# Altium footprint library Miscellaneous LED Segment Displays.PcbLib: 17 footprints (part 2 of 2)
Each footprint in its own frame and in the unit in brackets; x right, y up, seen from the top. Pads: shape width x height; smd on the part's side, far side on the other; paste and mask are expansions set on the pad; w line width, h text height; cw(c..) or ccw(c..) is an arc to the next point about the centre after c.
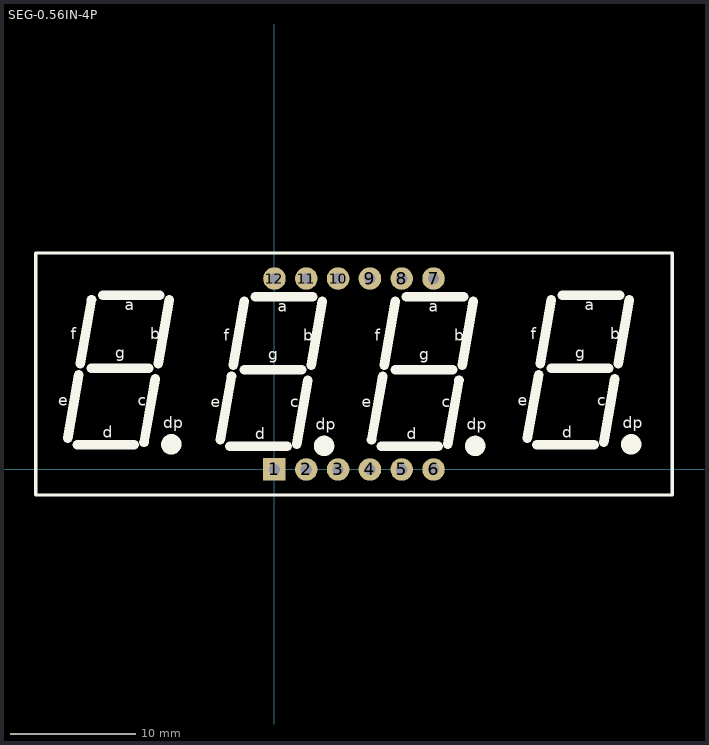
[diagram p1: the footprint, top view; thin cyan lines are the x and y axes]

## SEG-0.56IN-4P [mm]
pads (12):
  rect 1.8x1.8 hole 0.9: 1(0,0)
  round 1.8 hole 0.9: 2(2.54,0) 3(5.08,0) 4(7.62,0) 5(10.16,0) 6(12.7,0) 7(12.7,15.24) 8(10.16,15.24) 9(7.62,15.24) 10(5.08,15.24) 11(2.54,15.24) 12(0,15.24)
Top Overlay:
  circle w1.016: c16.027,1.88 r0.305
  circle w1.016: c3.962,1.88 r0.305
  circle w1.016: c-8.23,2.007 r0.305
  circle w1.016: c28.473,2.007 r0.305
  lines w0.254: -19.05,-2.032 31.75,-2.032 31.75,17.272 -19.05,17.272 -19.05,-2.032
  lines w0.762: -16.51,2.489 -15.621,7.569 ; -15.748,1.981 -11.176,1.981 ; -15.494,8.458 -14.605,13.538 ; -14.605,8.077 -10.033,8.077 ; -13.716,13.919 -9.144,13.919 ; -10.414,2.159 -9.525,7.239 ; -9.271,8.458 -8.382,13.538 ; -4.318,2.362 -3.429,7.442 ; -3.556,1.854 1.016,1.854 ; -3.302,8.331 -2.413,13.411 ; -2.413,7.95 2.159,7.95 ; -1.524,13.792 3.048,13.792 ; 1.778,2.032 2.667,7.112 ; 2.921,8.331 3.81,13.411 ; 7.747,2.362 8.636,7.442 ; 8.509,1.854 13.081,1.854 ; 8.763,8.331 9.652,13.411 ; 9.652,7.95 14.224,7.95 ; 10.541,13.792 15.113,13.792 ; 13.843,2.032 14.732,7.112 ; 14.986,8.331 15.875,13.411 ; 20.193,2.489 21.082,7.569 ; 20.955,1.981 25.527,1.981 ; 21.209,8.458 22.098,13.538 ; 22.098,8.077 26.67,8.077 ; 22.987,13.919 27.559,13.919 ; 26.289,2.159 27.178,7.239 ; 27.432,8.458 28.321,13.538
  text "c" at 13.335,4.953 h0.9
  text "dp" at 15.367,3.175 h0.9
  text "e" at 6.985,4.953 h0.9
  text "d" at 10.541,2.413 h0.9
  text "a" at 12.319,12.573 h0.9
  text "g" at 11.557,8.763 h0.9
  text "b" at 14.351,10.287 h0.9
  text "f" at 8.001,10.287 h0.9
  text "c" at 1.27,4.953 h0.9
  text "dp" at 3.302,3.175 h0.9
  text "e" at -5.08,4.953 h0.9
  text "d" at -1.524,2.413 h0.9
  text "a" at 0.254,12.573 h0.9
  text "g" at -0.508,8.763 h0.9
  text "b" at 2.286,10.287 h0.9
  text "f" at -4.064,10.287 h0.9
  text "c" at -10.922,5.08 h0.9
  text "dp" at -8.89,3.302 h0.9
  text "e" at -17.272,5.08 h0.9
  text "d" at -13.716,2.54 h0.9
  text "a" at -11.938,12.7 h0.9
  text "g" at -12.7,8.89 h0.9
  text "b" at -9.906,10.414 h0.9
  text "f" at -16.256,10.414 h0.9
  text "f" at 20.447,10.414 h0.9
  text "b" at 26.797,10.414 h0.9
  text "g" at 24.003,8.89 h0.9
  text "a" at 24.765,12.7 h0.9
  text "d" at 22.987,2.54 h0.9
  text "e" at 19.431,5.08 h0.9
  text "dp" at 27.813,3.302 h0.9
  text "c" at 25.781,5.08 h0.9
3D body "0.56IN-4P.STEP": height 8, standoff -3.6, extent -18.8,-1.855 31.5,17.145